# Altium footprint library ESP8266MOD.PcbLib: 1 footprints
Each footprint in its own frame and in the unit in brackets; x right, y up, seen from the top. Pads: shape width x height; smd on the part's side, far side on the other; paste and mask are expansions set on the pad; w line width, h text height; cw(c..) or ccw(c..) is an arc to the next point about the centre after c.
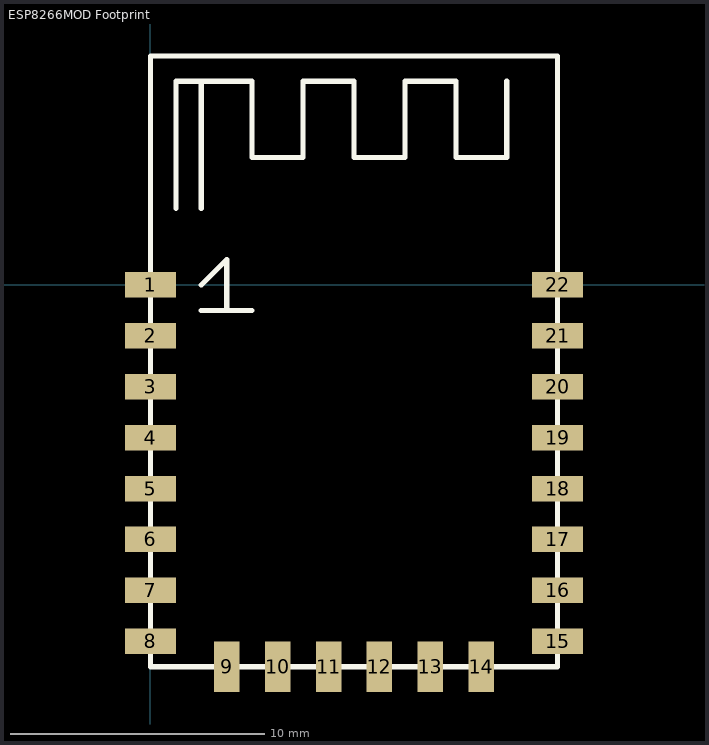
[diagram p0: the footprint, top view; thin cyan lines are the x and y axes]

## ESP8266MOD Footprint [mm]
pads (22):
  rect 2x1 smd paste+0 mask+0.05: 1(0,0) 2(0,-2) 3(0,-4) 4(0,-6) 5(0,-8) 6(0,-10) 7(0,-12) 8(0,-14) 15(16,-14) 16(16,-12) 17(16,-10) 18(16,-8) 19(16,-6) 20(16,-4) 21(16,-2) 22(16,0)
  rect 1x2 smd paste+0 mask+0.05: 9(3,-15) 10(5,-15) 11(7,-15) 12(9,-15) 13(11,-15) 14(13,-15)
Top Overlay:
  lines w0.2: 1,3 1,8 2,8 ; 2,3 2,8 ; 4,-1 2,-1 3,-1 3,1 2,0 ; 14,8 14,5 12,5 12,8 10,8 10,5 8,5 8,8 6,8 6,5 4,5 4,8 2,8 ; 2,0 2,0 ; 0,-15 0,9 16,9 16,-15 0,-15